# Altium footprint library Metal_Opera_Relay.PcbLib: 1 footprints
Each footprint in its own frame and in the unit in brackets; x right, y up, seen from the top. Pads: shape width x height; smd on the part's side, far side on the other; paste and mask are expansions set on the pad; w line width, h text height; cw(c..) or ccw(c..) is an arc to the next point about the centre after c.
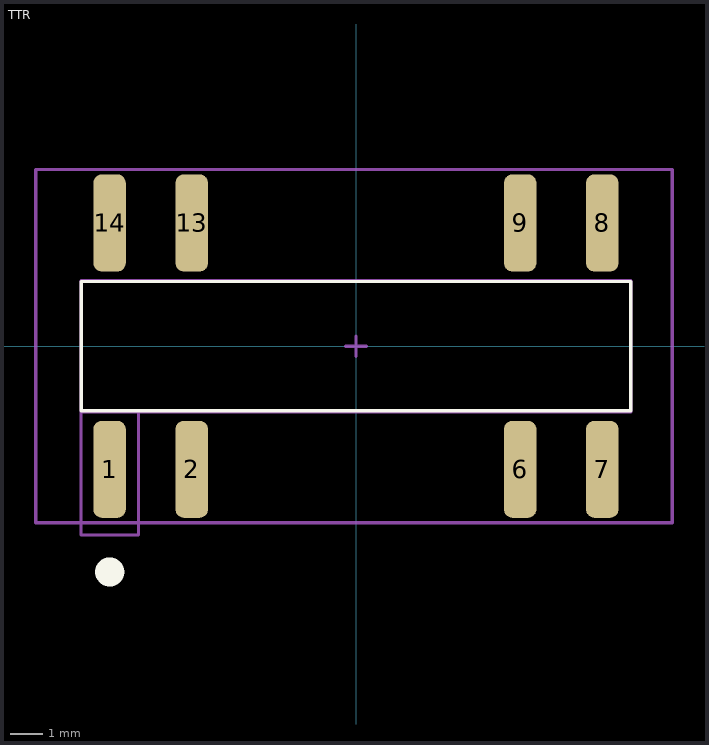
[diagram p0: the footprint, top view; thin cyan lines are the x and y axes]

## TTR [mm]
pads (8):
  rrect50% 1x3 smd: 1(-7.623,-3.81) 2(-5.083,-3.81) 6(5.077,-3.81) 7(7.617,-3.81) 8(7.617,3.81) 9(5.077,3.81) 13(-5.083,3.81) 14(-7.623,3.81)
Top Overlay:
  circle w0.5: c-7.62,-6.985 r0.2
  lines w0.1: -8.5,-2 8.5,-2 8.5,2 -8.5,2 -8.5,-2
Top Assembly:
  lines w0.1: -6.731,-2.032 -6.731,-5.842 -8.509,-5.842 -8.509,-2.032 ; -8.509,-2.032 8.509,-2.032 8.509,2.032 -8.509,2.032 -8.509,-2.032
Top Courtyard:
  lines w0.1: -0.318,0 0.318,0 ; 0,-0.318 0,0.318 ; -9.906,-5.461 9.779,-5.461 9.779,5.461 -9.906,5.461 -9.906,-5.461
3D body "SMD type TTR.stp": height 5.5, standoff 0.03, extent -9.827,-4.776 9.673,4.844